# Altium schematic symbol library 1935187.SchLib: 1 symbol
Pins are listed as number, name and electrical type; pins without a type are passive.

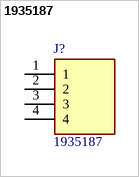
[diagram p0: symbol 1935187]

## 1935187
designator J?
Fixed Terminal Blocks PT 1.5/4-5.0-H; Manufacturer_Name: Phoenix Contact; Geometry.Height: 11.55mm; Mouser Part Number: 651-1935187; Mouser Price/Stock: https://www.mouser.co.uk/ProductDetail/Phoenix-Contact/1935187?qs=W3wJikR1%252BS5tIYApIw6HoQ%3D%3D; Manufacturer_Part_Number: 1935187; Datasheet Link: http://www.phoenixcontact.com/us/products/1935187/pdf
footprint 1935187
pins: 1, 2, 3, 4